# Altium schematic symbol library ECS-80-12-30-JGM-TR.SchLib: 1 symbol
Pins are listed as number, name and electrical type; pins without a type are passive.

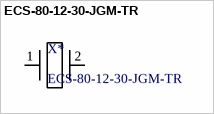
[diagram p0: symbol ECS-80-12-30-JGM-TR]

## ECS-80-12-30-JGM-TR
designator X*
Crystal; Manufacturer: ECS Incorporated; Frequency: 8MHz; Load Capacitance: 12pF; Part Number: ECS-80-12-30-JGM-TR
footprint ECS-80-12-30-JGM-TR
pins: 1, 2